# Altium footprint library ESCLib1.PcbLib: 34 footprints (part 2 of 3)
Each footprint in its own frame and in the unit in brackets; x right, y up, seen from the top. Pads: shape width x height; smd on the part's side, far side on the other; paste and mask are expansions set on the pad; w line width, h text height; cw(c..) or ccw(c..) is an arc to the next point about the centre after c.
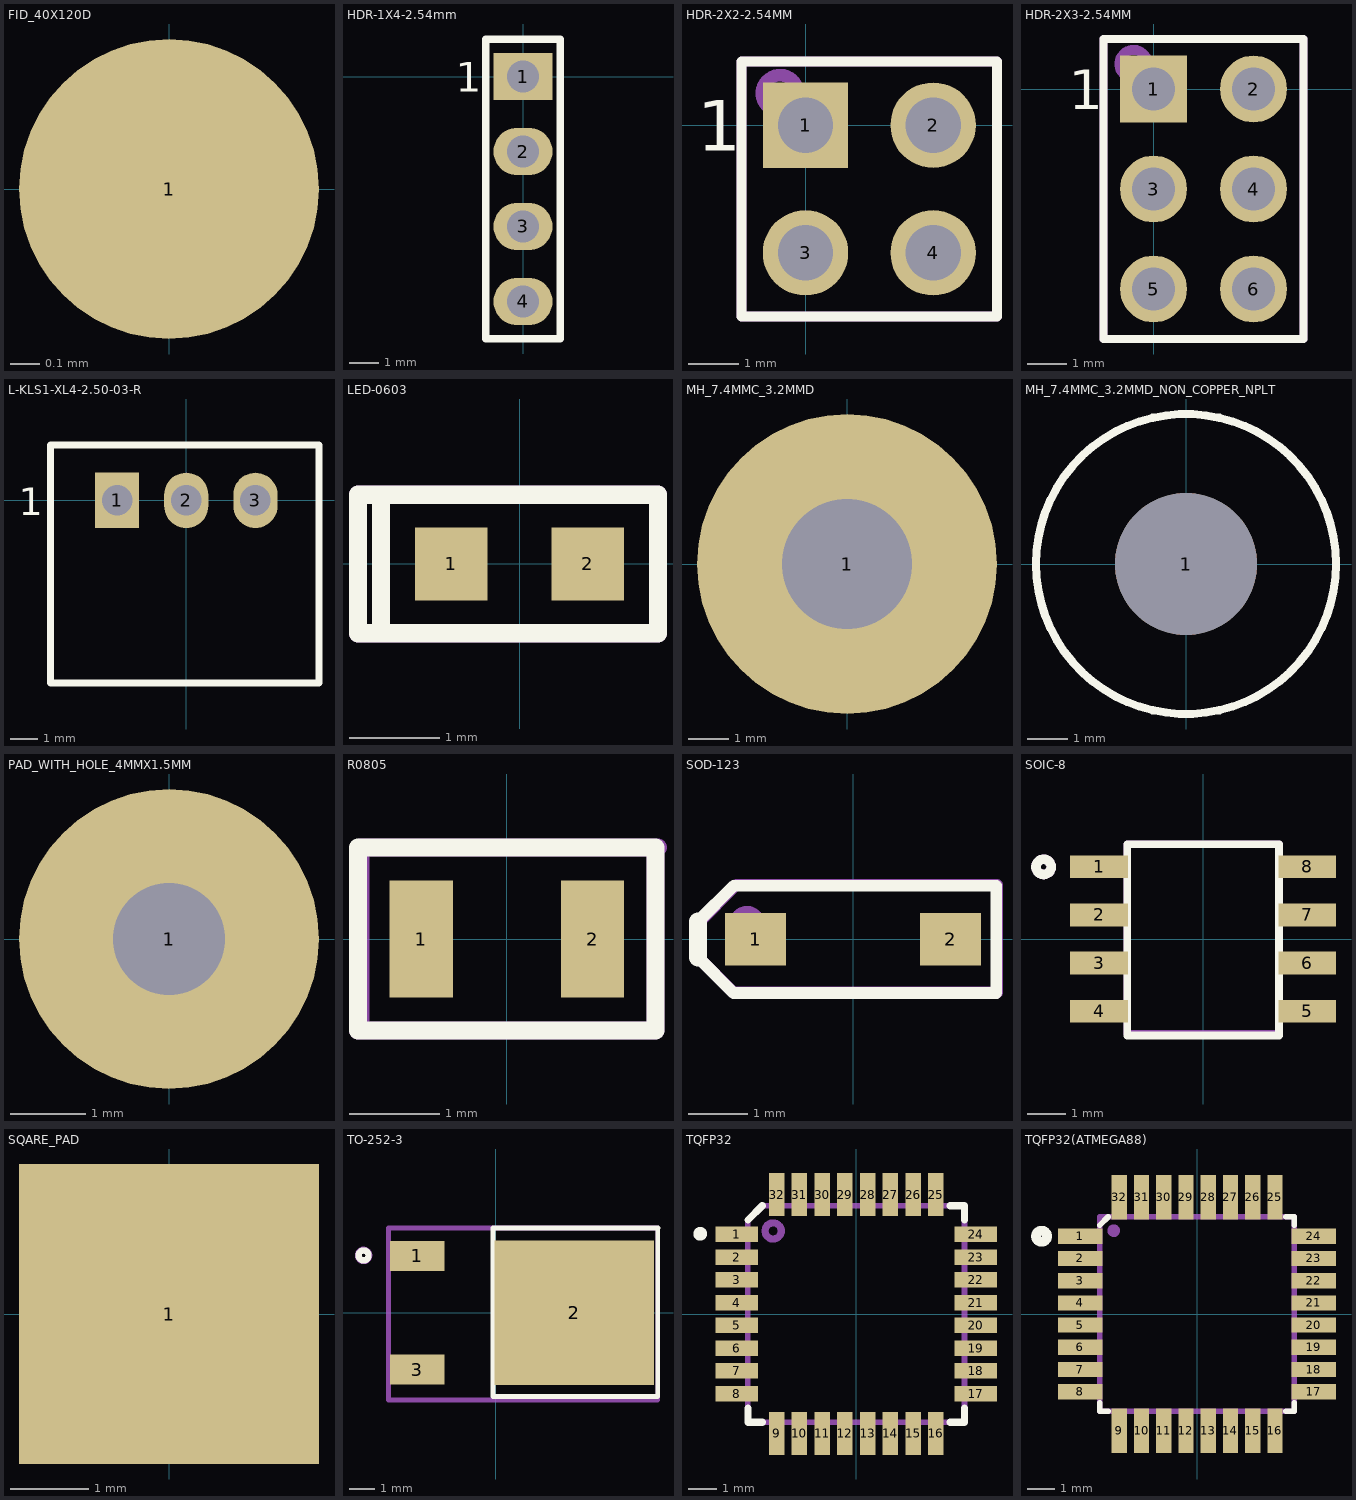
[diagram p1: the footprints below, top view; thin cyan lines are the x and y axes]

## FID_40X120D [mil]
pads (1):
  round 40 smd paste-40 mask+40: 1(0,0)

## HDR-1X4-2.54mm [mm]
pads (4):
  rect 2x1.6 hole 1.1: 1(0,0)
  oval 2x1.6 hole 1.1: 2(0,-2.54) 3(0,-5.08) 4(0,-7.62)
Top Overlay:
  lines w0.254: -1.27,-8.89 1.27,-8.89 1.27,1.27 -1.27,1.27 -1.27,-8.89
  text "1" at -2.286,-0.508 h1
Assembly Notes:
  circle w0.254: c0,0 r0.508
  lines w0.2: -1.27,-8.89 1.27,-8.89 1.27,1.27 -1.27,1.27 -1.27,-8.89
  text "'.Designator'" at 0.429,-4.572 h1
3D body "HDR_1X4_2.54MM.stp": height 8.19, standoff -2.6, extent -1.143,-8.89 1.27,1.27

## HDR-2X2-2.54MM [mm]
pads (4):
  rect 1.7x1.7 hole 1.1: 1(0,0)
  round 1.7 hole 1.1: 2(2.54,0) 3(0,-2.54) 4(2.54,-2.54)
Top Overlay:
  lines w0.2: -1.27,-3.81 0,-3.81 2.54,-3.81 3.81,-3.81 3.81,1.27 -1.27,1.27 -1.27,-3.81
  text "1" at -2.159,-0.508 h1
Assembly Notes:
  circle w0.254: c-0.508,0.635 r0.359
  lines w0.2: -1.27,-3.81 3.81,-3.81 3.81,1.27 -1.27,1.27 -1.27,-3.81
  text "'.Designator'" at 1.445,-2.032 h1
3D body "HDR_2X2_2.54MM.stp": height 7.89, standoff -3.42, extent -1.27,-3.835 3.81,1.245

## HDR-2X3-2.54MM [mm]
pads (6):
  rect 1.7x1.7 hole 1.1: 1(0,0)
  round 1.7 hole 1.1: 2(2.54,0) 3(0,-2.54) 4(2.54,-2.54) 5(0,-5.08) 6(2.54,-5.08)
Top Overlay:
  lines w0.2: -1.27,-6.35 3.81,-6.35 3.81,1.27 -1.27,1.27 -1.27,-6.35
  text "1" at -2.159,-0.508 h1
Assembly Notes:
  circle w0.254: c-0.508,0.635 r0.359
  lines w0.2: -1.27,-6.35 3.81,-6.35 3.81,1.27 -1.27,1.27 -1.27,-6.35
  text "'.Designator'" at 1.318,-3.302 h1
3D body "HDR_2X3_2.54MM.STEP": height 9.21, standoff -3.49, extent -1.281,-6.331 3.799,1.289

## L-KLS1-XL4-2.50-03-R [mm]
pads (3):
  rect 1.6x2 hole 1.1: 1(-2.5,0)
  oval 1.6x2 hole 1.1: 2(0,0) 3(2.5,0)
Top Overlay:
  lines w0.254: -4.9,-6.6 4.8,-6.6 4.8,2 -4.9,2 -4.9,-6.6
  text "1" at -6.046,-0.546 h1
Assembly Notes:
  circle w0.254: c-2.54,0 r0.508
  lines w0.2: -4.9,-6.6 4.8,-6.6 4.8,2 -4.9,2 -4.9,-6.6
  text "'.Designator'" at -3.146,-4.213 h1
3D body "JST - XH - Thru (R) - 3Pin - 2.54mm.stp": height 5.85, standoff -3.37, extent -4.877,-7.534 4.877,0.503

## LED-0603 [mm]
pads (2):
  rect 0.8x0.8 smd: 1(-0.75,0) 2(0.75,0)
Top Overlay:
  lines w0.2: -1.524,-0.762 1.524,-0.762 1.524,0.762 -1.524,0.762 ; -1.524,-0.762 -1.524,0.762 ; -1.524,-0.762 -1.778,-0.762 -1.778,0.762 -1.524,0.762
Assembly Notes:
  lines w0.2: -1.524,-0.762 -1.524,0.762 ; -1.778,-0.762 -1.778,0.762 1.524,0.762 1.524,-0.762 -1.778,-0.762
  text "'.Designator'" at -0.635,-0.212 h0.51
3D body "LED_SMD0603.step": height 0.68, standoff 0, extent -0.825,-0.375 0.825,0.35

## MH_7.4MMC_3.2MMD [mm]
pads (1):
  round 7.4 hole 3.2: 1(0,0)

## MH_7.4MMC_3.2MMD_NON_COPPER_NPLT [mm]
pads (1):
  round 3.5 hole 3.5: 1(0,0)
Top Overlay:
  circle w0.2: c0,0 r3.7

## PAD_WITH_HOLE_4MMX1.5MM [mm]
pads (1):
  round 4 hole 1.5: 1(0,0)

## R0805 [mm]
pads (2):
  rect 0.7x1.3 smd: 1(-0.95,0) 2(0.95,0)
Top Overlay:
  lines w0.2: -1.651,-1.016 1.651,-1.016 1.651,1.016 -1.651,1.016 -1.651,-1.016
Assembly Notes:
  lines w0.2: -1.651,-1.016 1.651,-1.016 1.651,0.991 1.676,1.016 -1.626,1.016 -1.626,-0.991 -1.651,-1.016
  text "'.Designator'" at -0.968,-0.407 h1
3D body "R0805.stp": height 0.7, standoff 0.1, extent -1,-0.625 1,0.625

## SOD-123 [mm]
pads (2):
  rect 1.02x0.88 smd: 1(-1.635,0) 2(1.635,0)
Top Overlay:
  lines w0.2: -2.6,-0.3 -2,-0.9 2.4,-0.9 2.4,0.9 -2,0.9 -2.6,0.3
  lines w0.3: -2.6,-0.3 -2.6,0.3
Assembly Notes:
  circle w0.254: c-1.778,0.254 r0.18
  lines w0.2: -2.616,-0.279 -2.007,-0.889 2.413,-0.889 2.413,0.914 -1.956,0.914 -2.616,0.254 -2.616,-0.279
  text "'.Designator'" at -0.746,-0.513 h1
3D body "SOD-123.STEP": height 1.46, standoff 0.01, extent -1.825,-0.775 1.825,0.775

## SOIC-8 [mm]
pads (8):
  rect 1.52x0.6 smd: 1(-2.74,1.905) 2(-2.74,0.635) 3(-2.74,-0.635) 4(-2.74,-1.905) 5(2.74,-1.905) 6(2.74,-0.635) 7(2.74,0.635) 8(2.74,1.905)
Top Overlay:
  circle w0.254: c-4.2,1.9 r0.2
  lines w0.2: -2,-2.54 -2,2.5 2,2.5 2,-2.54 -2,-2.54
Assembly Notes:
  circle w0.254: c-4.2,1.9 r0.2
  lines w0.2: -2,-2.5 2,-2.5 2,2.5 -2,2.5 -2,-2.5
  text "'.Designator'" at -1.7,-0.467 h1
3D body "SOIC8_ONS.step": height 1.76, standoff 0, extent -3.099,-2.451 3.099,2.451

## SQARE_PAD [mm]
pads (1):
  rect 3.81x3.81 smd paste-2539.97 mask+0.102: 1(0,0)

## TO-252-3 [mm]
pads (3):
  rect 2.2x1.2 smd: 1(-3.15,2.28) 3(-3.15,-2.28)
  rect 6.4x5.8 smd: 2(3.15,0)
Top Overlay:
  circle w0.254: c-5.3,2.3 r0.2
  lines w0.2: -0.1,3.365 -0.1,-3.365 6.5,-3.365 6.5,3.365 ; -0.1,3.4 6.51,3.4
Assembly Notes:
  circle w0.254: c-5.3,2.3 r0.224
  lines w0.2: -4.3,-3.5 6.5,-3.5 6.5,3.4 -4.3,3.4 -4.3,-3.5
  text "'.Designator'" at -4,-0.367 h1
3D body "TO-252-3.step": height 2.41, standoff 0, extent -4.102,-3.35 6.25,3.35

## TQFP32 [mm]
pads (32):
  rect 1.5x0.55 smd mask+0.06: 1(-4.2,2.8) 2(-4.2,2) 3(-4.2,1.2) 4(-4.2,0.4) 5(-4.2,-0.4) 6(-4.2,-1.2) 7(-4.2,-2) 8(-4.2,-2.8) 17(4.2,-2.8) 18(4.2,-2) 19(4.2,-1.2) 20(4.2,-0.4) 21(4.2,0.4) 22(4.2,1.2) 23(4.2,2) 24(4.2,2.8)
  rect 0.55x1.5 smd mask+0.06: 9(-2.8,-4.2) 10(-2,-4.2) 11(-1.2,-4.2) 12(-0.4,-4.2) 13(0.4,-4.2) 14(1.2,-4.2) 15(2,-4.2) 16(2.8,-4.2) 25(2.8,4.2) 26(2,4.2) 27(1.2,4.2) 28(0.4,4.2) 29(-0.4,4.2) 30(-1.2,4.2) 31(-2,4.2) 32(-2.8,4.2)
Top Overlay:
  circle w0.254: c-5.486,2.819 r0.114
  lines w0.254: -3.81,-3.302 -3.81,-3.81 -3.302,-3.81 ; -3.81,3.302 -3.302,3.81 ; 3.302,-3.81 3.81,-3.81 3.81,-3.302 ; 3.302,3.81 3.81,3.81 3.81,3.302
Assembly Notes:
  circle w0.254: c-2.921,2.921 r0.284
  lines w0.2: -3.81,-3.81 3.804,-3.81 3.807,-3.807 3.807,3.807 3.81,3.81 -3.302,3.81 -3.81,3.302 -3.81,-3.81
  text "'.Designator'" at -0.762,-0.302 h1
3D body "TQFP32.STEP": height 1.12, standoff -0.08, extent -4.5,-4.5 4.5,4.5

## TQFP32(ATMEGA88) [mm]
pads (32):
  rect 1.6x0.55 smd mask+0.06: 1(-4.2,2.8) 2(-4.2,2) 3(-4.2,1.2) 4(-4.2,0.4) 5(-4.2,-0.4) 6(-4.2,-1.2) 7(-4.2,-2) 8(-4.2,-2.8) 17(4.2,-2.8) 18(4.2,-2) 19(4.2,-1.2) 20(4.2,-0.4) 21(4.2,0.4) 22(4.2,1.2) 23(4.2,2) 24(4.2,2.8)
  rect 0.55x1.6 smd mask+0.06: 9(-2.8,-4.2) 10(-2,-4.2) 11(-1.2,-4.2) 12(-0.4,-4.2) 13(0.4,-4.2) 14(1.2,-4.2) 15(2,-4.2) 16(2.8,-4.2) 25(2.8,4.2) 26(2,4.2) 27(1.2,4.2) 28(0.4,4.2) 29(-0.4,4.2) 30(-1.2,4.2) 31(-2,4.2) 32(-2.8,4.2)
Top Overlay:
  circle w0.35: c-5.6,2.8 r0.2
  lines w0.2: -3.5,-3.2 -3.5,-3.5 -3.2,-3.5 ; -3.5,3.2 -3.2,3.5 ; 3.2,-3.5 3.5,-3.5 3.5,-3.2 ; 3.2,3.5 3.5,3.5 3.5,3.2
Assembly Notes:
  circle w0.254: c-3,3 r0.1
  lines w0.2: -3.5,-3.5 -3.5,3.5 3.5,3.5 3.5,-3.5 -3.5,-3.5
  text "'.Designator'" at -3.1,-0.467 h1
3D body "TQFP32.STEP": height 1.18, standoff -0.02, extent -4.5,-4.5 4.5,4.5